# Altium integrated library TI Amplifiers and Linear Operational Amplifier Precision Amplifier Part One.IntLib: 2299 symbols (part 83 of 85)
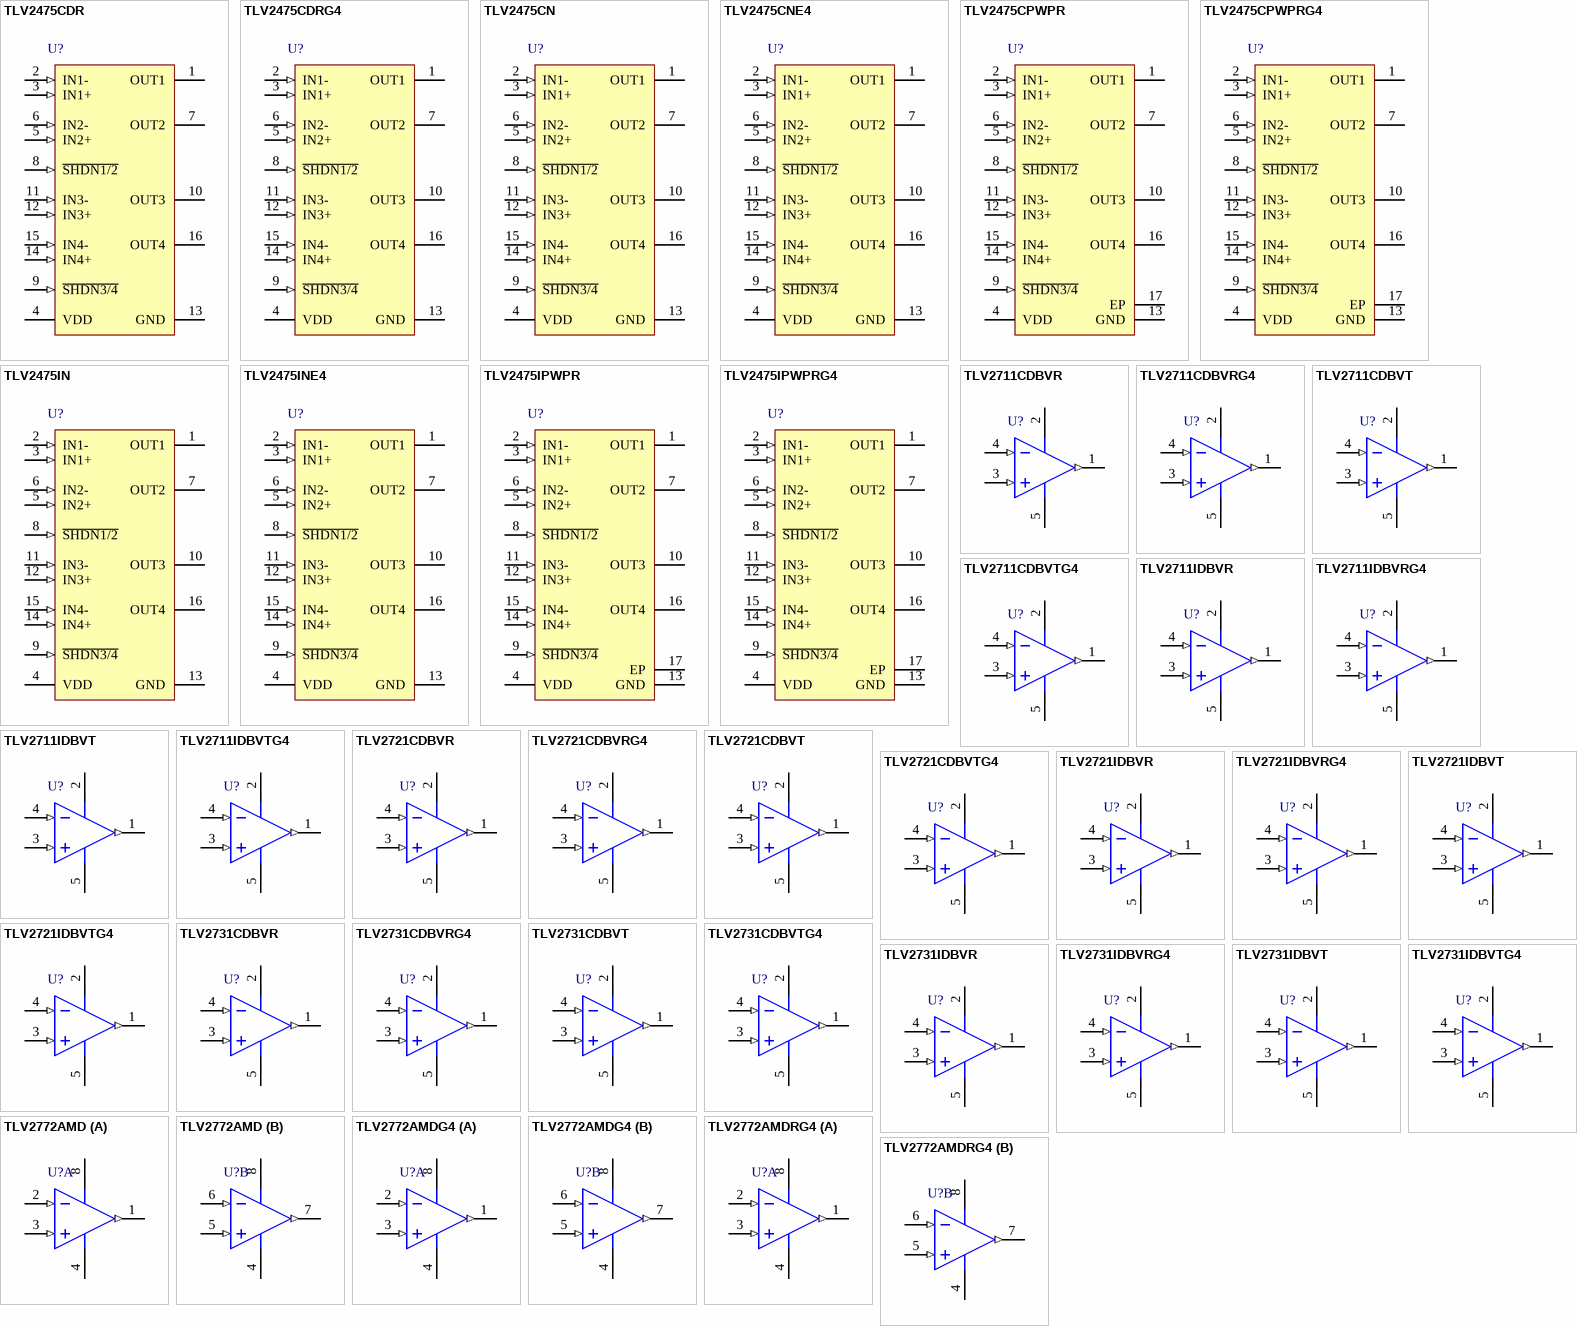
[diagram p206: symbols TLV2475CDR to TLV2772AMDRG4]

## TLV2721IDBVR
designator U?
Single LinCMOS(TM) Rail-to-Rail Very Low-Power Operational Amplifier, 2.7 to 10 V, -40 to 85 degC, 5-pin SOT23 (DBV5), Green (RoHS & no Sb/Br); Manufacturer: Texas Instruments; PartNumber: TLV2721IDBVR; CMRR(Min)(dB): 70; IIB(Max)(pA): 60; Iq per channel(Max)(mA): 0.15; Number of Channels: 1; Slew Rate(Typ)(V/us): 0.25; Sub Family: Low Power Amp (<=500uA), Low Supply Voltage Amplifier (<=2.7V), Precision Amplifier; Total Supply Voltage(Max)(+5V is 5, +/-5V is 10): 10; Total Supply Voltage(Min)(+5V is 5, +/-5V is 10): 2.7; Vio (25C)(Max)(mV): 3; Vn at 1kHz(Typ)(nV/rtHz): 20; DatasheetVersion: SLOS197A; PackageVersion: 4073253-4/K, 03/2006; PackageReference: DBV5; PackageDescription: 5-Pin Plastic Small Outline, Body 1.6 x 2.9 mm, Pitch 0.95 mm; Supplier 1: Digi-Key; Supplier Part Number 1: 296-10654-2-ND; Supplier 2: Digi-Key; Supplier Part Number 2: 296-10654-1-ND; Supplier 3: Digi-Key; Supplier Part Number 3: 296-10654-6-ND; Supplier 4: Newark; Supplier Part Number 4: 76C8489; Supplier 5: Mouser; Supplier Part Number 5: 595-TLV2721IDBVR; Eco-Plan: Green (RoHS & no Sb/Br); Offset Drift(Typ)(uV/C): 1; Mounting Technology: Surface Mount; Code_JEDEC: MO-178; ComponentLink1Description: Manufacturer URL; ComponentLink1URL: http://www.ti.com/; ComponentLink2Description: Datasheet; ComponentLink2URL: http://www.ti.com/general/docs/lit/getliterature.tsp?genericPartNumber=TLV2721&fileType=pdf; ComponentLink3Description: Package Specification; ComponentLink3URL: http://www.ti.com/litv/pdf/mpds018i
footprint TI-DBV5_N (SOT23, 5-Leads, Body 2.9x1.6mm, Pitch 0.95mm, IPC Medium Density)
footprint TI-DBV5_L (SOT23, 5-Leads, Body 2.9x1.6mm, Pitch 0.95mm, IPC High Density)
footprint TI-DBV5_M (SOT23, 5-Leads, Body 2.9x1.6mm, Pitch 0.95mm, IPC Low Density)
pins: 1 OUT (out), 2 VDD+ (power), 3 IN+ (in), 4 IN- (in), 5 VDD-/GND (power)

## TLV2721IDBVRG4
designator U?
Single LinCMOS(TM) Rail-to-Rail Very Low-Power Operational Amplifier, 2.7 to 10 V, -40 to 85 degC, 5-pin SOT23 (DBV5), Green (RoHS & no Sb/Br); Manufacturer: Texas Instruments; PartNumber: TLV2721IDBVRG4; CMRR(Min)(dB): 70; IIB(Max)(pA): 60; Iq per channel(Max)(mA): 0.15; Number of Channels: 1; Slew Rate(Typ)(V/us): 0.25; Sub Family: Low Power Amp (<=500uA), Low Supply Voltage Amplifier (<=2.7V), Precision Amplifier; Total Supply Voltage(Max)(+5V is 5, +/-5V is 10): 10; Total Supply Voltage(Min)(+5V is 5, +/-5V is 10): 2.7; Vio (25C)(Max)(mV): 3; Vn at 1kHz(Typ)(nV/rtHz): 20; DatasheetVersion: SLOS197A; PackageVersion: 4073253-4/K, 03/2006; PackageReference: DBV5; PackageDescription: 5-Pin Plastic Small Outline, Body 1.6 x 2.9 mm, Pitch 0.95 mm; Supplier 1: Digi-Key; Supplier Part Number 1: TLV2721IDBVRG4-ND; Supplier 2: Mouser; Supplier Part Number 2: 595-TLV2721IDBVRG4; Eco-Plan: Green (RoHS & no Sb/Br); Offset Drift(Typ)(uV/C): 1; Mounting Technology: Surface Mount; Code_JEDEC: MO-178; ComponentLink1Description: Manufacturer URL; ComponentLink1URL: http://www.ti.com/; ComponentLink2Description: Datasheet; ComponentLink2URL: http://www.ti.com/general/docs/lit/getliterature.tsp?genericPartNumber=TLV2721&fileType=pdf; ComponentLink3Description: Package Specification; ComponentLink3URL: http://www.ti.com/litv/pdf/mpds018i
footprint TI-DBV5_N (SOT23, 5-Leads, Body 2.9x1.6mm, Pitch 0.95mm, IPC Medium Density)
footprint TI-DBV5_L (SOT23, 5-Leads, Body 2.9x1.6mm, Pitch 0.95mm, IPC High Density)
footprint TI-DBV5_M (SOT23, 5-Leads, Body 2.9x1.6mm, Pitch 0.95mm, IPC Low Density)
pins: 1 OUT (out), 2 VDD+ (power), 3 IN+ (in), 4 IN- (in), 5 VDD-/GND (power)

## TLV2721IDBVT
designator U?
Single LinCMOS(TM) Rail-to-Rail Very Low-Power Operational Amplifier, 2.7 to 10 V, -40 to 85 degC, 5-pin SOT23 (DBV5), Green (RoHS & no Sb/Br); Manufacturer: Texas Instruments; PartNumber: TLV2721IDBVT; CMRR(Min)(dB): 70; IIB(Max)(pA): 60; Iq per channel(Max)(mA): 0.15; Number of Channels: 1; Slew Rate(Typ)(V/us): 0.25; Sub Family: Low Power Amp (<=500uA), Low Supply Voltage Amplifier (<=2.7V), Precision Amplifier; Total Supply Voltage(Max)(+5V is 5, +/-5V is 10): 10; Total Supply Voltage(Min)(+5V is 5, +/-5V is 10): 2.7; Vio (25C)(Max)(mV): 3; Vn at 1kHz(Typ)(nV/rtHz): 20; DatasheetVersion: SLOS197A; PackageVersion: 4073253-4/K, 03/2006; PackageReference: DBV5; PackageDescription: 5-Pin Plastic Small Outline, Body 1.6 x 2.9 mm, Pitch 0.95 mm; Supplier 1: Digi-Key; Supplier Part Number 1: TLV2721IDBVT-ND; Supplier 2: Newark; Supplier Part Number 2: 76C8490; Supplier 3: Mouser; Supplier Part Number 3: 595-TLV2721IDBVT; Eco-Plan: Green (RoHS & no Sb/Br); Offset Drift(Typ)(uV/C): 1; Mounting Technology: Surface Mount; Code_JEDEC: MO-178; ComponentLink1Description: Manufacturer URL; ComponentLink1URL: http://www.ti.com/; ComponentLink2Description: Datasheet; ComponentLink2URL: http://www.ti.com/general/docs/lit/getliterature.tsp?genericPartNumber=TLV2721&fileType=pdf; ComponentLink3Description: Package Specification; ComponentLink3URL: http://www.ti.com/litv/pdf/mpds018i
footprint TI-DBV5_N (SOT23, 5-Leads, Body 2.9x1.6mm, Pitch 0.95mm, IPC Medium Density)
footprint TI-DBV5_L (SOT23, 5-Leads, Body 2.9x1.6mm, Pitch 0.95mm, IPC High Density)
footprint TI-DBV5_M (SOT23, 5-Leads, Body 2.9x1.6mm, Pitch 0.95mm, IPC Low Density)
pins: 1 OUT (out), 2 VDD+ (power), 3 IN+ (in), 4 IN- (in), 5 VDD-/GND (power)

## TLV2721IDBVTG4
designator U?
Single LinCMOS(TM) Rail-to-Rail Very Low-Power Operational Amplifier, 2.7 to 10 V, -40 to 85 degC, 5-pin SOT23 (DBV5), Green (RoHS & no Sb/Br); Manufacturer: Texas Instruments; PartNumber: TLV2721IDBVTG4; CMRR(Min)(dB): 70; IIB(Max)(pA): 60; Iq per channel(Max)(mA): 0.15; Number of Channels: 1; Slew Rate(Typ)(V/us): 0.25; Sub Family: Low Power Amp (<=500uA), Low Supply Voltage Amplifier (<=2.7V), Precision Amplifier; Total Supply Voltage(Max)(+5V is 5, +/-5V is 10): 10; Total Supply Voltage(Min)(+5V is 5, +/-5V is 10): 2.7; Vio (25C)(Max)(mV): 3; Vn at 1kHz(Typ)(nV/rtHz): 20; DatasheetVersion: SLOS197A; PackageVersion: 4073253-4/K, 03/2006; PackageReference: DBV5; PackageDescription: 5-Pin Plastic Small Outline, Body 1.6 x 2.9 mm, Pitch 0.95 mm; Supplier 1: Digi-Key; Supplier Part Number 1: TLV2721IDBVTG4-ND; Supplier 2: Mouser; Supplier Part Number 2: 595-TLV2721IDBVTG4; Eco-Plan: Green (RoHS & no Sb/Br); Offset Drift(Typ)(uV/C): 1; Mounting Technology: Surface Mount; Code_JEDEC: MO-178; ComponentLink1Description: Manufacturer URL; ComponentLink1URL: http://www.ti.com/; ComponentLink2Description: Datasheet; ComponentLink2URL: http://www.ti.com/general/docs/lit/getliterature.tsp?genericPartNumber=TLV2721&fileType=pdf; ComponentLink3Description: Package Specification; ComponentLink3URL: http://www.ti.com/litv/pdf/mpds018i
footprint TI-DBV5_N (SOT23, 5-Leads, Body 2.9x1.6mm, Pitch 0.95mm, IPC Medium Density)
footprint TI-DBV5_L (SOT23, 5-Leads, Body 2.9x1.6mm, Pitch 0.95mm, IPC High Density)
footprint TI-DBV5_M (SOT23, 5-Leads, Body 2.9x1.6mm, Pitch 0.95mm, IPC Low Density)
pins: 1 OUT (out), 2 VDD+ (power), 3 IN+ (in), 4 IN- (in), 5 VDD-/GND (power)

## TLV2731CDBVR
designator U?
Single LinCMOS(TM) Rail-to-Rail Low-Power Operational Amplifier, 2.7 to 10 V, 0 to 70 degC, 5-pin SOT23 (DBV5), Green (RoHS & no Sb/Br); Manufacturer: Texas Instruments; PartNumber: TLV2731CDBVR; CMRR(Min)(dB): 60; Iq per channel(Max)(mA): 1.2; Number of Channels: 1; Offset Drift(Typ)(uV/C): 0.5; Slew Rate(Typ)(V/us): 1.25; Sub Family: Low Supply Voltage Amplifier (<=2.7V), Precision Amplifier; Total Supply Voltage(Max)(+5V is 5, +/-5V is 10): 10; Total Supply Voltage(Min)(+5V is 5, +/-5V is 10): 2.7; Vio (25C)(Max)(mV): 3; Vn at 1kHz(Typ)(nV/rtHz): 16; DatasheetVersion: SLOS198A; PackageVersion: 4073253-4/K, 03/2006; PackageReference: DBV5; PackageDescription: 5-Pin Plastic Small Outline, Body 1.6 x 2.9 mm, Pitch 0.95 mm; Supplier 1: Digi-Key; Supplier Part Number 1: 296-10656-2-ND; Supplier 2: Digi-Key; Supplier Part Number 2: 296-10656-1-ND; Supplier 3: Digi-Key; Supplier Part Number 3: 296-10656-6-ND; Supplier 4: Newark; Supplier Part Number 4: 76C8491; Supplier 5: Mouser; Supplier Part Number 5: 595-TLV2731CDBVR; Eco-Plan: Green (RoHS & no Sb/Br); IIB(Max)(pA): 60; Mounting Technology: Surface Mount; Code_JEDEC: MO-178; ComponentLink1Description: Manufacturer URL; ComponentLink1URL: http://www.ti.com/; ComponentLink2Description: Datasheet; ComponentLink2URL: http://www.ti.com/general/docs/lit/getliterature.tsp?genericPartNumber=TLV2731&fileType=pdf; ComponentLink3Description: Package Specification; ComponentLink3URL: http://www.ti.com/litv/pdf/mpds018i
footprint TI-DBV5_N (SOT23, 5-Leads, Body 2.9x1.6mm, Pitch 0.95mm, IPC Medium Density)
footprint TI-DBV5_L (SOT23, 5-Leads, Body 2.9x1.6mm, Pitch 0.95mm, IPC High Density)
footprint TI-DBV5_M (SOT23, 5-Leads, Body 2.9x1.6mm, Pitch 0.95mm, IPC Low Density)
pins: 1 OUT (out), 2 VDD+ (power), 3 IN+ (in), 4 IN- (in), 5 VDD-/GND (power)

## TLV2731CDBVRG4
designator U?
Single LinCMOS(TM) Rail-to-Rail Low-Power Operational Amplifier, 2.7 to 10 V, 0 to 70 degC, 5-pin SOT23 (DBV5), Green (RoHS & no Sb/Br); Manufacturer: Texas Instruments; PartNumber: TLV2731CDBVRG4; CMRR(Min)(dB): 60; Iq per channel(Max)(mA): 1.2; Number of Channels: 1; Offset Drift(Typ)(uV/C): 0.5; Slew Rate(Typ)(V/us): 1.25; Sub Family: Low Supply Voltage Amplifier (<=2.7V), Precision Amplifier; Total Supply Voltage(Max)(+5V is 5, +/-5V is 10): 10; Total Supply Voltage(Min)(+5V is 5, +/-5V is 10): 2.7; Vio (25C)(Max)(mV): 3; Vn at 1kHz(Typ)(nV/rtHz): 16; DatasheetVersion: SLOS198A; PackageVersion: 4073253-4/K, 03/2006; PackageReference: DBV5; PackageDescription: 5-Pin Plastic Small Outline, Body 1.6 x 2.9 mm, Pitch 0.95 mm; Supplier 1: Digi-Key; Supplier Part Number 1: TLV2731CDBVRG4-ND; Supplier 2: Newark; Supplier Part Number 2: 71J8006; Supplier 3: Mouser; Supplier Part Number 3: 595-TLV2731CDBVRG4; Eco-Plan: Green (RoHS & no Sb/Br); IIB(Max)(pA): 60; Mounting Technology: Surface Mount; Code_JEDEC: MO-178; ComponentLink1Description: Manufacturer URL; ComponentLink1URL: http://www.ti.com/; ComponentLink2Description: Datasheet; ComponentLink2URL: http://www.ti.com/general/docs/lit/getliterature.tsp?genericPartNumber=TLV2731&fileType=pdf; ComponentLink3Description: Package Specification; ComponentLink3URL: http://www.ti.com/litv/pdf/mpds018i
footprint TI-DBV5_N (SOT23, 5-Leads, Body 2.9x1.6mm, Pitch 0.95mm, IPC Medium Density)
footprint TI-DBV5_L (SOT23, 5-Leads, Body 2.9x1.6mm, Pitch 0.95mm, IPC High Density)
footprint TI-DBV5_M (SOT23, 5-Leads, Body 2.9x1.6mm, Pitch 0.95mm, IPC Low Density)
pins: 1 OUT (out), 2 VDD+ (power), 3 IN+ (in), 4 IN- (in), 5 VDD-/GND (power)

## TLV2731CDBVT
designator U?
Single LinCMOS(TM) Rail-to-Rail Low-Power Operational Amplifier, 2.7 to 10 V, 0 to 70 degC, 5-pin SOT23 (DBV5), Green (RoHS & no Sb/Br); Manufacturer: Texas Instruments; PartNumber: TLV2731CDBVT; CMRR(Min)(dB): 60; Iq per channel(Max)(mA): 1.2; Number of Channels: 1; Offset Drift(Typ)(uV/C): 0.5; Slew Rate(Typ)(V/us): 1.25; Sub Family: Low Supply Voltage Amplifier (<=2.7V), Precision Amplifier; Total Supply Voltage(Max)(+5V is 5, +/-5V is 10): 10; Total Supply Voltage(Min)(+5V is 5, +/-5V is 10): 2.7; Vio (25C)(Max)(mV): 3; Vn at 1kHz(Typ)(nV/rtHz): 16; DatasheetVersion: SLOS198A; PackageVersion: 4073253-4/K, 03/2006; PackageReference: DBV5; PackageDescription: 5-Pin Plastic Small Outline, Body 1.6 x 2.9 mm, Pitch 0.95 mm; Supplier 1: Digi-Key; Supplier Part Number 1: 296-32381-2-ND; Supplier 2: Digi-Key; Supplier Part Number 2: 296-32381-1-ND; Supplier 3: Digi-Key; Supplier Part Number 3: 296-32381-6-ND; Supplier 4: Farnell; Supplier Part Number 4: 8455295; Supplier 5: Mouser; Supplier Part Number 5: 595-TLV2731CDBVT; Eco-Plan: Green (RoHS & no Sb/Br); IIB(Max)(pA): 60; Mounting Technology: Surface Mount; Code_JEDEC: MO-178; ComponentLink1Description: Manufacturer URL; ComponentLink1URL: http://www.ti.com/; ComponentLink2Description: Datasheet; ComponentLink2URL: http://www.ti.com/general/docs/lit/getliterature.tsp?genericPartNumber=TLV2731&fileType=pdf; ComponentLink3Description: Package Specification; ComponentLink3URL: http://www.ti.com/litv/pdf/mpds018i
footprint TI-DBV5_N (SOT23, 5-Leads, Body 2.9x1.6mm, Pitch 0.95mm, IPC Medium Density)
footprint TI-DBV5_L (SOT23, 5-Leads, Body 2.9x1.6mm, Pitch 0.95mm, IPC High Density)
footprint TI-DBV5_M (SOT23, 5-Leads, Body 2.9x1.6mm, Pitch 0.95mm, IPC Low Density)
pins: 1 OUT (out), 2 VDD+ (power), 3 IN+ (in), 4 IN- (in), 5 VDD-/GND (power)

## TLV2731CDBVTG4
designator U?
Single LinCMOS(TM) Rail-to-Rail Low-Power Operational Amplifier, 2.7 to 10 V, 0 to 70 degC, 5-pin SOT23 (DBV5), Green (RoHS & no Sb/Br); Manufacturer: Texas Instruments; PartNumber: TLV2731CDBVTG4; CMRR(Min)(dB): 60; Iq per channel(Max)(mA): 1.2; Number of Channels: 1; Offset Drift(Typ)(uV/C): 0.5; Slew Rate(Typ)(V/us): 1.25; Sub Family: Low Supply Voltage Amplifier (<=2.7V), Precision Amplifier; Total Supply Voltage(Max)(+5V is 5, +/-5V is 10): 10; Total Supply Voltage(Min)(+5V is 5, +/-5V is 10): 2.7; Vio (25C)(Max)(mV): 3; Vn at 1kHz(Typ)(nV/rtHz): 16; DatasheetVersion: SLOS198A; PackageVersion: 4073253-4/K, 03/2006; PackageReference: DBV5; PackageDescription: 5-Pin Plastic Small Outline, Body 1.6 x 2.9 mm, Pitch 0.95 mm; Supplier 1: Digi-Key; Supplier Part Number 1: TLV2731CDBVTG4-ND; Supplier 2: Mouser; Supplier Part Number 2: 595-TLV2731CDBVTG4; Eco-Plan: Green (RoHS & no Sb/Br); IIB(Max)(pA): 60; Mounting Technology: Surface Mount; Code_JEDEC: MO-178; ComponentLink1Description: Manufacturer URL; ComponentLink1URL: http://www.ti.com/; ComponentLink2Description: Datasheet; ComponentLink2URL: http://www.ti.com/general/docs/lit/getliterature.tsp?genericPartNumber=TLV2731&fileType=pdf; ComponentLink3Description: Package Specification; ComponentLink3URL: http://www.ti.com/litv/pdf/mpds018i
footprint TI-DBV5_N (SOT23, 5-Leads, Body 2.9x1.6mm, Pitch 0.95mm, IPC Medium Density)
footprint TI-DBV5_L (SOT23, 5-Leads, Body 2.9x1.6mm, Pitch 0.95mm, IPC High Density)
footprint TI-DBV5_M (SOT23, 5-Leads, Body 2.9x1.6mm, Pitch 0.95mm, IPC Low Density)
pins: 1 OUT (out), 2 VDD+ (power), 3 IN+ (in), 4 IN- (in), 5 VDD-/GND (power)

## TLV2731IDBVR
designator U?
Single LinCMOS(TM) Rail-to-Rail Low-Power Operational Amplifier, 2.7 to 10 V, -40 to 85 degC, 5-pin SOT23 (DBV5), Green (RoHS & no Sb/Br); Manufacturer: Texas Instruments; PartNumber: TLV2731IDBVR; CMRR(Min)(dB): 60; Iq per channel(Max)(mA): 1.2; Number of Channels: 1; Offset Drift(Typ)(uV/C): 0.5; Slew Rate(Typ)(V/us): 1.25; Sub Family: Low Supply Voltage Amplifier (<=2.7V), Precision Amplifier; Total Supply Voltage(Max)(+5V is 5, +/-5V is 10): 10; Total Supply Voltage(Min)(+5V is 5, +/-5V is 10): 2.7; Vio (25C)(Max)(mV): 3; Vn at 1kHz(Typ)(nV/rtHz): 16; DatasheetVersion: SLOS198A; PackageVersion: 4073253-4/K, 03/2006; PackageReference: DBV5; PackageDescription: 5-Pin Plastic Small Outline, Body 1.6 x 2.9 mm, Pitch 0.95 mm; Supplier 1: Digi-Key; Supplier Part Number 1: 296-10657-2-ND; Supplier 2: Digi-Key; Supplier Part Number 2: 296-10657-1-ND; Supplier 3: Digi-Key; Supplier Part Number 3: 296-10657-6-ND; Supplier 4: Newark; Supplier Part Number 4: 76C8493; Supplier 5: Mouser; Supplier Part Number 5: 595-TLV2731IDBVR; Eco-Plan: Green (RoHS & no Sb/Br); IIB(Max)(pA): 60; Mounting Technology: Surface Mount; Code_JEDEC: MO-178; ComponentLink1Description: Manufacturer URL; ComponentLink1URL: http://www.ti.com/; ComponentLink2Description: Datasheet; ComponentLink2URL: http://www.ti.com/general/docs/lit/getliterature.tsp?genericPartNumber=TLV2731&fileType=pdf; ComponentLink3Description: Package Specification; ComponentLink3URL: http://www.ti.com/litv/pdf/mpds018i
footprint TI-DBV5_N (SOT23, 5-Leads, Body 2.9x1.6mm, Pitch 0.95mm, IPC Medium Density)
footprint TI-DBV5_L (SOT23, 5-Leads, Body 2.9x1.6mm, Pitch 0.95mm, IPC High Density)
footprint TI-DBV5_M (SOT23, 5-Leads, Body 2.9x1.6mm, Pitch 0.95mm, IPC Low Density)
pins: 1 OUT (out), 2 VDD+ (power), 3 IN+ (in), 4 IN- (in), 5 VDD-/GND (power)

## TLV2731IDBVRG4
designator U?
Single LinCMOS(TM) Rail-to-Rail Low-Power Operational Amplifier, 2.7 to 10 V, -40 to 85 degC, 5-pin SOT23 (DBV5), Green (RoHS & no Sb/Br); Manufacturer: Texas Instruments; PartNumber: TLV2731IDBVRG4; CMRR(Min)(dB): 60; Iq per channel(Max)(mA): 1.2; Number of Channels: 1; Offset Drift(Typ)(uV/C): 0.5; Slew Rate(Typ)(V/us): 1.25; Sub Family: Low Supply Voltage Amplifier (<=2.7V), Precision Amplifier; Total Supply Voltage(Max)(+5V is 5, +/-5V is 10): 10; Total Supply Voltage(Min)(+5V is 5, +/-5V is 10): 2.7; Vio (25C)(Max)(mV): 3; Vn at 1kHz(Typ)(nV/rtHz): 16; DatasheetVersion: SLOS198A; PackageVersion: 4073253-4/K, 03/2006; PackageReference: DBV5; PackageDescription: 5-Pin Plastic Small Outline, Body 1.6 x 2.9 mm, Pitch 0.95 mm; Supplier 1: Digi-Key; Supplier Part Number 1: TLV2731IDBVRG4-ND; Supplier 2: Mouser; Supplier Part Number 2: 595-TLV2731IDBVRG4; Eco-Plan: Green (RoHS & no Sb/Br); IIB(Max)(pA): 60; Mounting Technology: Surface Mount; Code_JEDEC: MO-178; ComponentLink1Description: Manufacturer URL; ComponentLink1URL: http://www.ti.com/; ComponentLink2Description: Datasheet; ComponentLink2URL: http://www.ti.com/general/docs/lit/getliterature.tsp?genericPartNumber=TLV2731&fileType=pdf; ComponentLink3Description: Package Specification; ComponentLink3URL: http://www.ti.com/litv/pdf/mpds018i
footprint TI-DBV5_N (SOT23, 5-Leads, Body 2.9x1.6mm, Pitch 0.95mm, IPC Medium Density)
footprint TI-DBV5_L (SOT23, 5-Leads, Body 2.9x1.6mm, Pitch 0.95mm, IPC High Density)
footprint TI-DBV5_M (SOT23, 5-Leads, Body 2.9x1.6mm, Pitch 0.95mm, IPC Low Density)
pins: 1 OUT (out), 2 VDD+ (power), 3 IN+ (in), 4 IN- (in), 5 VDD-/GND (power)

## TLV2731IDBVT
designator U?
Single LinCMOS(TM) Rail-to-Rail Low-Power Operational Amplifier, 2.7 to 10 V, -40 to 85 degC, 5-pin SOT23 (DBV5), Green (RoHS & no Sb/Br); Manufacturer: Texas Instruments; PartNumber: TLV2731IDBVT; CMRR(Min)(dB): 60; Iq per channel(Max)(mA): 1.2; Number of Channels: 1; Offset Drift(Typ)(uV/C): 0.5; Slew Rate(Typ)(V/us): 1.25; Sub Family: Low Supply Voltage Amplifier (<=2.7V), Precision Amplifier; Total Supply Voltage(Max)(+5V is 5, +/-5V is 10): 10; Total Supply Voltage(Min)(+5V is 5, +/-5V is 10): 2.7; Vio (25C)(Max)(mV): 3; Vn at 1kHz(Typ)(nV/rtHz): 16; DatasheetVersion: SLOS198A; PackageVersion: 4073253-4/K, 03/2006; PackageReference: DBV5; PackageDescription: 5-Pin Plastic Small Outline, Body 1.6 x 2.9 mm, Pitch 0.95 mm; Supplier 1: Digi-Key; Supplier Part Number 1: 296-32382-2-ND; Supplier 2: Digi-Key; Supplier Part Number 2: 296-32382-1-ND; Supplier 3: Digi-Key; Supplier Part Number 3: 296-32382-6-ND; Supplier 4: Farnell; Supplier Part Number 4: 8455309; Supplier 5: Newark; Supplier Part Number 5: 38K8451; Supplier 6: Mouser; Supplier Part Number 6: 595-TLV2731IDBVT; Eco-Plan: Green (RoHS & no Sb/Br); IIB(Max)(pA): 60; Mounting Technology: Surface Mount; Code_JEDEC: MO-178; ComponentLink1Description: Manufacturer URL; ComponentLink1URL: http://www.ti.com/; ComponentLink2Description: Datasheet; ComponentLink2URL: http://www.ti.com/general/docs/lit/getliterature.tsp?genericPartNumber=TLV2731&fileType=pdf; ComponentLink3Description: Package Specification; ComponentLink3URL: http://www.ti.com/litv/pdf/mpds018i
footprint TI-DBV5_N (SOT23, 5-Leads, Body 2.9x1.6mm, Pitch 0.95mm, IPC Medium Density)
footprint TI-DBV5_L (SOT23, 5-Leads, Body 2.9x1.6mm, Pitch 0.95mm, IPC High Density)
footprint TI-DBV5_M (SOT23, 5-Leads, Body 2.9x1.6mm, Pitch 0.95mm, IPC Low Density)
pins: 1 OUT (out), 2 VDD+ (power), 3 IN+ (in), 4 IN- (in), 5 VDD-/GND (power)

## TLV2731IDBVTG4
designator U?
Single LinCMOS(TM) Rail-to-Rail Low-Power Operational Amplifier, 2.7 to 10 V, -40 to 85 degC, 5-pin SOT23 (DBV5), Green (RoHS & no Sb/Br); Manufacturer: Texas Instruments; PartNumber: TLV2731IDBVTG4; CMRR(Min)(dB): 60; Iq per channel(Max)(mA): 1.2; Number of Channels: 1; Offset Drift(Typ)(uV/C): 0.5; Slew Rate(Typ)(V/us): 1.25; Sub Family: Low Supply Voltage Amplifier (<=2.7V), Precision Amplifier; Total Supply Voltage(Max)(+5V is 5, +/-5V is 10): 10; Total Supply Voltage(Min)(+5V is 5, +/-5V is 10): 2.7; Vio (25C)(Max)(mV): 3; Vn at 1kHz(Typ)(nV/rtHz): 16; DatasheetVersion: SLOS198A; PackageVersion: 4073253-4/K, 03/2006; PackageReference: DBV5; PackageDescription: 5-Pin Plastic Small Outline, Body 1.6 x 2.9 mm, Pitch 0.95 mm; Supplier 1: Digi-Key; Supplier Part Number 1: TLV2731IDBVTG4-ND; Supplier 2: Mouser; Supplier Part Number 2: 595-TLV2731IDBVTG4; Eco-Plan: Green (RoHS & no Sb/Br); IIB(Max)(pA): 60; Mounting Technology: Surface Mount; Code_JEDEC: MO-178; ComponentLink1Description: Manufacturer URL; ComponentLink1URL: http://www.ti.com/; ComponentLink2Description: Datasheet; ComponentLink2URL: http://www.ti.com/general/docs/lit/getliterature.tsp?genericPartNumber=TLV2731&fileType=pdf; ComponentLink3Description: Package Specification; ComponentLink3URL: http://www.ti.com/litv/pdf/mpds018i
footprint TI-DBV5_N (SOT23, 5-Leads, Body 2.9x1.6mm, Pitch 0.95mm, IPC Medium Density)
footprint TI-DBV5_L (SOT23, 5-Leads, Body 2.9x1.6mm, Pitch 0.95mm, IPC High Density)
footprint TI-DBV5_M (SOT23, 5-Leads, Body 2.9x1.6mm, Pitch 0.95mm, IPC Low Density)
pins: 1 OUT (out), 2 VDD+ (power), 3 IN+ (in), 4 IN- (in), 5 VDD-/GND (power)

## TLV2772AMD
designator U?
Dual High-Slew-Rate Rail-to-Rail Output Operational Amplifier, 2.5 to 6 V, -55 to 125 degC, 8-pin SOIC (D8), Green (RoHS & no Sb/Br); Manufacturer: Texas Instruments; PartNumber: TLV2772AMD; CMRR(Min)(dB): 60; Iq per channel(Max)(mA): 2; Slew Rate(Typ)(V/us): 9; Sub Family: Low Supply Voltage Amplifier (<=2.7V), Precision Amplifier; Total Supply Voltage(Max)(+5V is 5, +/-5V is 10): 6; Total Supply Voltage(Min)(+5V is 5, +/-5V is 10): 2.5; Vio (25C)(Max)(mV): 1.6; Vn at 1kHz(Typ)(nV/rtHz): 21; DatasheetVersion: SLOS209G; PackageVersion: 4040047-3/M, 06/2011; PackageReference: D8; PackageDescription: 8-Pin Plastic Small Outline, Body 4.9 x 3.9 mm, Pitch 1.27 mm; Supplier 1: Digi-Key; Supplier Part Number 1: 296-7589-5-ND; Supplier 2: Newark; Supplier Part Number 2: 76C8561; Supplier 3: Mouser; Supplier Part Number 3: 595-TLV2772AMD; Eco-Plan: Green (RoHS & no Sb/Br); IIB(Max)(pA): 60; Number of Channels: 2; Offset Drift(Typ)(uV/C): 2; Mounting Technology: Surface Mount; Code_JEDEC: MS-012; ComponentLink1Description: Manufacturer URL; ComponentLink1URL: http://www.ti.com/; ComponentLink2Description: Datasheet; ComponentLink2URL: http://www.ti.com/general/docs/lit/getliterature.tsp?genericPartNumber=TLV2772AM&fileType=pdf; ComponentLink3Description: Package Specification; ComponentLink3URL: http://www.ti.com/litv/pdf/msoi002j
footprint TI-D8_N (SOIC, 8-Leads, Body 4.9x3.9mm, Pitch 1.27mm, IPC Medium Density)
footprint TI-D8_L (SOIC, 8-Leads, Body 4.9x3.9mm, Pitch 1.27mm, IPC High Density)
footprint TI-D8_M (SOIC, 8-Leads, Body 4.9x3.9mm, Pitch 1.27mm, IPC Low Density)
pins on every part: 4 GND (power), 8 VDD (power)
part A pins: 1 OUT1 (out), 2 IN1- (in), 3 IN1+ (in)
part B pins: 5 IN2+ (in), 6 IN2- (in), 7 OUT2 (out)

## TLV2772AMDG4
designator U?
Dual High-Slew-Rate Rail-to-Rail Output Operational Amplifier, 2.5 to 6 V, -55 to 125 degC, 8-pin SOIC (D8), Green (RoHS & no Sb/Br); Manufacturer: Texas Instruments; PartNumber: TLV2772AMDG4; CMRR(Min)(dB): 60; Iq per channel(Max)(mA): 2; Slew Rate(Typ)(V/us): 9; Sub Family: Low Supply Voltage Amplifier (<=2.7V), Precision Amplifier; Total Supply Voltage(Max)(+5V is 5, +/-5V is 10): 6; Total Supply Voltage(Min)(+5V is 5, +/-5V is 10): 2.5; Vio (25C)(Max)(mV): 1.6; Vn at 1kHz(Typ)(nV/rtHz): 21; DatasheetVersion: SLOS209G; PackageVersion: 4040047-3/M, 06/2011; PackageReference: D8; PackageDescription: 8-Pin Plastic Small Outline, Body 4.9 x 3.9 mm, Pitch 1.27 mm; Supplier 1: Digi-Key; Supplier Part Number 1: TLV2772AMDG4-ND; Supplier 2: Mouser; Supplier Part Number 2: 595-TLV2772AMDG4; Eco-Plan: Green (RoHS & no Sb/Br); IIB(Max)(pA): 60; Number of Channels: 2; Offset Drift(Typ)(uV/C): 2; Mounting Technology: Surface Mount; Code_JEDEC: MS-012; ComponentLink1Description: Manufacturer URL; ComponentLink1URL: http://www.ti.com/; ComponentLink2Description: Datasheet; ComponentLink2URL: http://www.ti.com/general/docs/lit/getliterature.tsp?genericPartNumber=TLV2772AM&fileType=pdf; ComponentLink3Description: Package Specification; ComponentLink3URL: http://www.ti.com/litv/pdf/msoi002j
footprint TI-D8_N (SOIC, 8-Leads, Body 4.9x3.9mm, Pitch 1.27mm, IPC Medium Density)
footprint TI-D8_L (SOIC, 8-Leads, Body 4.9x3.9mm, Pitch 1.27mm, IPC High Density)
footprint TI-D8_M (SOIC, 8-Leads, Body 4.9x3.9mm, Pitch 1.27mm, IPC Low Density)
pins on every part: 4 GND (power), 8 VDD (power)
part A pins: 1 OUT1 (out), 2 IN1- (in), 3 IN1+ (in)
part B pins: 5 IN2+ (in), 6 IN2- (in), 7 OUT2 (out)

## TLV2772AMDRG4
designator U?
Dual High-Slew-Rate Rail-to-Rail Output Operational Amplifier, 2.5 to 6 V, -55 to 125 degC, 8-pin SOIC (D8), Green (RoHS & no Sb/Br); Manufacturer: Texas Instruments; PartNumber: TLV2772AMDRG4; CMRR(Min)(dB): 60; Iq per channel(Max)(mA): 2; Slew Rate(Typ)(V/us): 9; Sub Family: Low Supply Voltage Amplifier (<=2.7V), Precision Amplifier; Total Supply Voltage(Max)(+5V is 5, +/-5V is 10): 6; Total Supply Voltage(Min)(+5V is 5, +/-5V is 10): 2.5; Vio (25C)(Max)(mV): 1.6; Vn at 1kHz(Typ)(nV/rtHz): 21; DatasheetVersion: SLOS209G; PackageVersion: 4040047-3/M, 06/2011; PackageReference: D8; PackageDescription: 8-Pin Plastic Small Outline, Body 4.9 x 3.9 mm, Pitch 1.27 mm; Supplier 1: Digi-Key; Supplier Part Number 1: TLV2772AMDRG4-ND; Supplier 2: Mouser; Supplier Part Number 2: 595-TLV2772AMDRG4; Eco-Plan: Green (RoHS & no Sb/Br); IIB(Max)(pA): 60; Number of Channels: 2; Offset Drift(Typ)(uV/C): 2; Mounting Technology: Surface Mount; Code_JEDEC: MS-012; ComponentLink1Description: Manufacturer URL; ComponentLink1URL: http://www.ti.com/; ComponentLink2Description: Datasheet; ComponentLink2URL: http://www.ti.com/general/docs/lit/getliterature.tsp?genericPartNumber=TLV2772AM&fileType=pdf; ComponentLink3Description: Package Specification; ComponentLink3URL: http://www.ti.com/litv/pdf/msoi002j
footprint TI-D8_N (SOIC, 8-Leads, Body 4.9x3.9mm, Pitch 1.27mm, IPC Medium Density)
footprint TI-D8_L (SOIC, 8-Leads, Body 4.9x3.9mm, Pitch 1.27mm, IPC High Density)
footprint TI-D8_M (SOIC, 8-Leads, Body 4.9x3.9mm, Pitch 1.27mm, IPC Low Density)
pins on every part: 4 GND (power), 8 VDD (power)
part A pins: 1 OUT1 (out), 2 IN1- (in), 3 IN1+ (in)
part B pins: 5 IN2+ (in), 6 IN2- (in), 7 OUT2 (out)

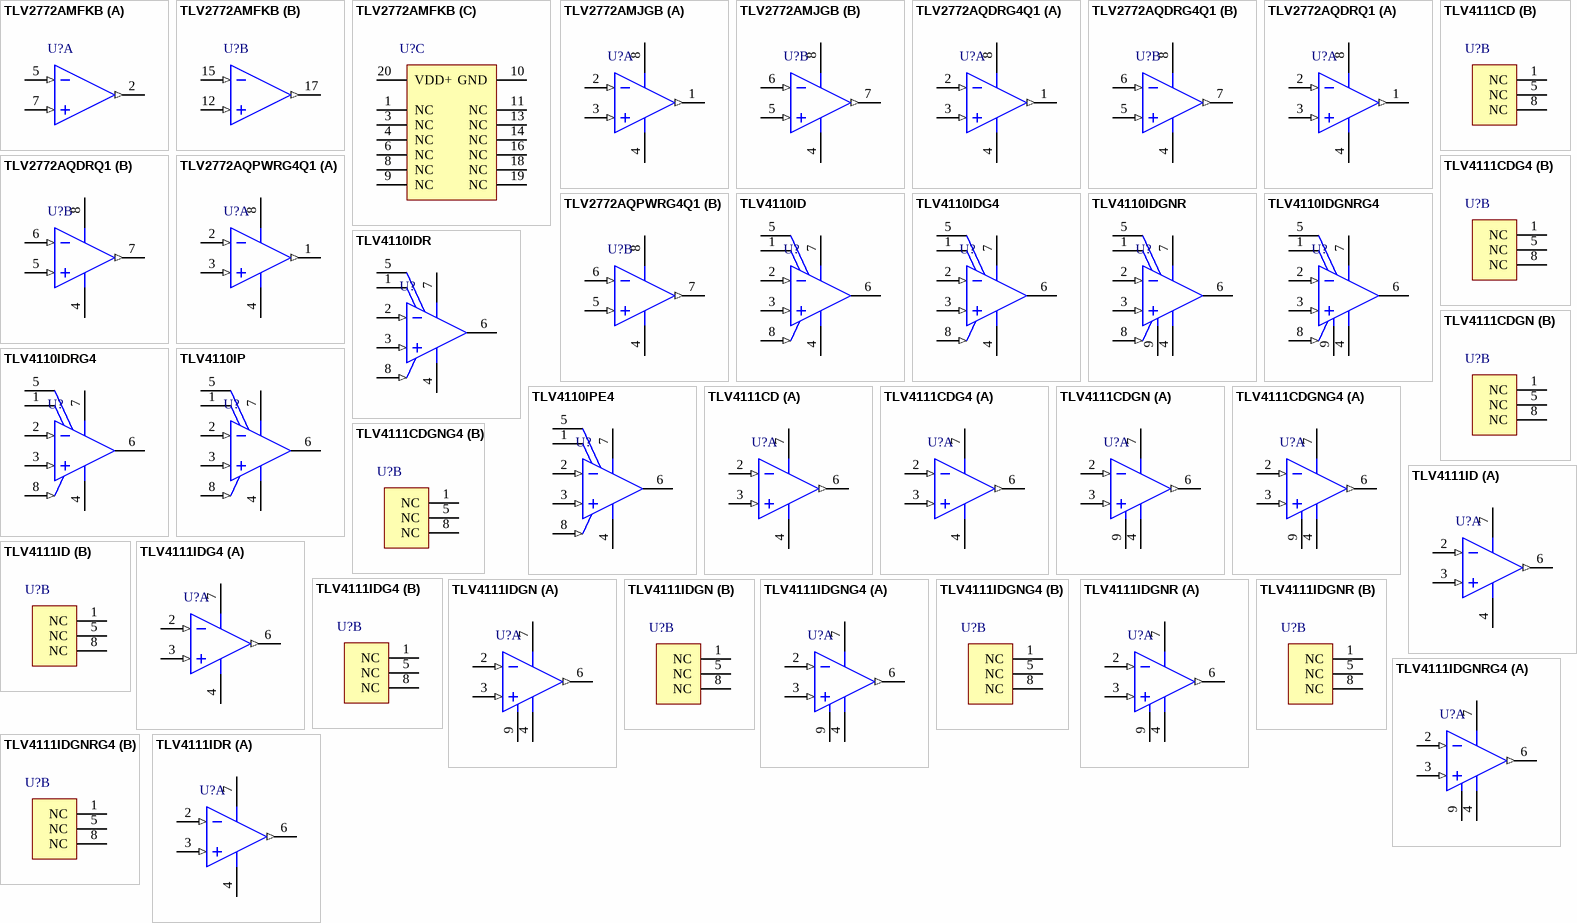
[diagram p121: symbols TLV2772AMFKB to TLV4111IDR]

## TLV2772AMFKB
designator U?
Dual High-Slew-Rate Rail-to-Rail Output Operational Amplifier, 2.5 to 6 V, -55 to 125 degC, 20-pin LCC (FK20); Manufacturer: Texas Instruments; PartNumber: TLV2772AMFKB; CMRR(Min)(dB): 60; Iq per channel(Max)(mA): 2; Slew Rate(Typ)(V/us): 9; Sub Family: Low Supply Voltage Amplifier (<=2.7V), Precision Amplifier; Total Supply Voltage(Max)(+5V is 5, +/-5V is 10): 6; Total Supply Voltage(Min)(+5V is 5, +/-5V is 10): 2.5; Vio (25C)(Max)(mV): 1.6; Vn at 1kHz(Typ)(nV/rtHz): 21; DatasheetVersion: SLOS209G; PackageVersion: 4040140/D, 01/2011; PackageReference: FK20; PackageDescription: 20-Pin Ceramic, Metal Chip Carrier, Body 8.89 x 8.89 mm, Pitch 1.27 mm; IIB(Max)(pA): 60; Number of Channels: 2; Offset Drift(Typ)(uV/C): 2; Mounting Technology: Surface Mount; Code_JEDEC: MS-004; ComponentLink1Description: Manufacturer URL; ComponentLink1URL: http://www.ti.com/; ComponentLink2Description: Datasheet; ComponentLink2URL: http://www.ti.com/general/docs/lit/getliterature.tsp?genericPartNumber=TLV2772AM&fileType=pdf; ComponentLink3Description: Package Specification; ComponentLink3URL: http://www.ti.com/litv/pdf/mlcc006d
footprint TI-FK20_N (Leadless Chip Carrier, 20-Leads, Body 8.9x8.9mm, Pitch 1.27mm, IPC Medium Density)
footprint TI-FK20_L (Leadless Chip Carrier, 20-Leads, Body 8.9x8.9mm, Pitch 1.27mm, IPC High Density)
footprint TI-FK20_M (Leadless Chip Carrier, 20-Leads, Body 8.9x8.9mm, Pitch 1.27mm, IPC Low Density)
part A pins: 2 OUT1 (out), 5 IN1- (in), 7 IN1+ (in)
part B pins: 12 IN2+ (in), 15 IN2- (in), 17 OUT2 (out)
part C pins: 1 NC, 3 NC, 4 NC, 6 NC, 8 NC, 9 NC, 10 GND (power), 11 NC, 13 NC, 14 NC, 16 NC, 18 NC, 19 NC, 20 VDD+ (power)

## TLV2772AMJGB
designator U?
Dual High-Slew-Rate Rail-to-Rail Output Operational Amplifier, 2.5 to 6 V, -55 to 125 degC, 8-pin DIP (JG8); Manufacturer: Texas Instruments; PartNumber: TLV2772AMJGB; CMRR(Min)(dB): 60; Iq per channel(Max)(mA): 2; Slew Rate(Typ)(V/us): 9; Sub Family: Low Supply Voltage Amplifier (<=2.7V), Precision Amplifier; Total Supply Voltage(Max)(+5V is 5, +/-5V is 10): 6; Total Supply Voltage(Min)(+5V is 5, +/-5V is 10): 2.5; Vio (25C)(Max)(mV): 1.6; Vn at 1kHz(Typ)(nV/rtHz): 21; DatasheetVersion: SLOS209G; PackageVersion: 4040107/C, 08/1996; PackageReference: JG8; PackageDescription: 8-Pin Ceramic, Glass In-Line, Body 9.58 x 6.665 mm, Pitch 2.54 mm; IIB(Max)(pA): 60; Number of Channels: 2; Offset Drift(Typ)(uV/C): 2; Mounting Technology: Through Hole; ComponentLink1Description: Manufacturer URL; ComponentLink1URL: http://www.ti.com/; ComponentLink2Description: Datasheet; ComponentLink2URL: http://www.ti.com/general/docs/lit/getliterature.tsp?genericPartNumber=TLV2772AM&fileType=pdf; ComponentLink3Description: Package Specification; ComponentLink3URL: http://www.ti.com/litv/pdf/mcer001a
footprint TI-JG8 (DIP, 8-Leads, Body 10.15x7.1mm, Pitch 2.54mm)
pins on every part: 4 GND (power), 8 VDD (power)
part A pins: 1 OUT1 (out), 2 IN1- (in), 3 IN1+ (in)
part B pins: 5 IN2+ (in), 6 IN2- (in), 7 OUT2 (out)

## TLV2772AQDRG4Q1
designator U?
Automotive Catalog High-Slew-Rate Rail-to-Rail Output Operational Amplifier with Shutdown, 2.5 to 6 V, -40 to 125 degC, 8-pin SOIC (D8), Green (RoHS & no Sb/Br); Manufacturer: Texas Instruments; PartNumber: TLV2772AQDRG4Q1; CMRR(Min)(dB): 60; Iq per channel(Max)(mA): 2; Slew Rate(Typ)(V/us): 9; Sub Family: Low Supply Voltage Amplifier (<=2.7V), Precision Amplifier; Total Supply Voltage(Max)(+5V is 5, +/-5V is 10): 6; Total Supply Voltage(Min)(+5V is 5, +/-5V is 10): 2.5; Vio (25C)(Max)(mV): 1.6; Vn at 1kHz(Typ)(nV/rtHz): 21; DatasheetVersion: SGLS179D; PackageVersion: 4040047-3/M, 06/2011; PackageReference: D8; PackageDescription: 8-Pin Plastic Small Outline, Body 4.9 x 3.9 mm, Pitch 1.27 mm; Supplier 1: Digi-Key; Supplier Part Number 1: TLV2772AQDRG4Q1-ND; Supplier 2: Mouser; Supplier Part Number 2: 595-TLV2772AQDRG4Q1; Eco-Plan: Green (RoHS & no Sb/Br); IIB(Max)(pA): 60; Number of Channels: 2; Offset Drift(Typ)(uV/C): 2; Mounting Technology: Surface Mount; Code_JEDEC: MS-012; ComponentLink1Description: Manufacturer URL; ComponentLink1URL: http://www.ti.com/; ComponentLink2Description: Datasheet; ComponentLink2URL: http://www.ti.com/general/docs/lit/getliterature.tsp?genericPartNumber=TLV2772A-Q1&fileType=pdf; ComponentLink3Description: Package Specification; ComponentLink3URL: http://www.ti.com/litv/pdf/msoi002j
footprint TI-D8_N (SOIC, 8-Leads, Body 4.9x3.9mm, Pitch 1.27mm, IPC Medium Density)
footprint TI-D8_L (SOIC, 8-Leads, Body 4.9x3.9mm, Pitch 1.27mm, IPC High Density)
footprint TI-D8_M (SOIC, 8-Leads, Body 4.9x3.9mm, Pitch 1.27mm, IPC Low Density)
pins on every part: 4 GND (power), 8 VDD (power)
part A pins: 1 OUT1 (out), 2 IN1- (in), 3 IN1+ (in)
part B pins: 5 IN2+ (in), 6 IN2- (in), 7 OUT2 (out)

## TLV2772AQDRQ1
designator U?
Automotive Catalog High-Slew-Rate Rail-to-Rail Output Operational Amplifier with Shutdown, 2.5 to 6 V, -40 to 125 degC, 8-pin SOIC (D8), Green (RoHS & no Sb/Br); Manufacturer: Texas Instruments; PartNumber: TLV2772AQDRQ1; CMRR(Min)(dB): 60; Iq per channel(Max)(mA): 2; Slew Rate(Typ)(V/us): 9; Sub Family: Low Supply Voltage Amplifier (<=2.7V), Precision Amplifier; Total Supply Voltage(Max)(+5V is 5, +/-5V is 10): 6; Total Supply Voltage(Min)(+5V is 5, +/-5V is 10): 2.5; Vio (25C)(Max)(mV): 1.6; Vn at 1kHz(Typ)(nV/rtHz): 21; DatasheetVersion: SGLS179D; PackageVersion: 4040047-3/M, 06/2011; PackageReference: D8; PackageDescription: 8-Pin Plastic Small Outline, Body 4.9 x 3.9 mm, Pitch 1.27 mm; Supplier 1: Digi-Key; Supplier Part Number 1: TLV2772AQDRQ1-ND; Supplier 2: Mouser; Supplier Part Number 2: 595-TLV2772AQDRQ1; Eco-Plan: Green (RoHS & no Sb/Br); IIB(Max)(pA): 60; Number of Channels: 2; Offset Drift(Typ)(uV/C): 2; Mounting Technology: Surface Mount; Code_JEDEC: MS-012; ComponentLink1Description: Manufacturer URL; ComponentLink1URL: http://www.ti.com/; ComponentLink2Description: Datasheet; ComponentLink2URL: http://www.ti.com/general/docs/lit/getliterature.tsp?genericPartNumber=TLV2772A-Q1&fileType=pdf; ComponentLink3Description: Package Specification; ComponentLink3URL: http://www.ti.com/litv/pdf/msoi002j
footprint TI-D8_N (SOIC, 8-Leads, Body 4.9x3.9mm, Pitch 1.27mm, IPC Medium Density)
footprint TI-D8_L (SOIC, 8-Leads, Body 4.9x3.9mm, Pitch 1.27mm, IPC High Density)
footprint TI-D8_M (SOIC, 8-Leads, Body 4.9x3.9mm, Pitch 1.27mm, IPC Low Density)
pins on every part: 4 GND (power), 8 VDD (power)
part A pins: 1 OUT1 (out), 2 IN1- (in), 3 IN1+ (in)
part B pins: 5 IN2+ (in), 6 IN2- (in), 7 OUT2 (out)

## TLV2772AQPWRG4Q1
designator U?
Automotive Catalog High-Slew-Rate Rail-to-Rail Output Operational Amplifier with Shutdown, 2.5 to 6 V, -40 to 125 degC, 8-pin SOP (PW8), Green (RoHS & no Sb/Br); Manufacturer: Texas Instruments; PartNumber: TLV2772AQPWRG4Q1; CMRR(Min)(dB): 60; Iq per channel(Max)(mA): 2; Slew Rate(Typ)(V/us): 9; Sub Family: Low Supply Voltage Amplifier (<=2.7V), Precision Amplifier; Total Supply Voltage(Max)(+5V is 5, +/-5V is 10): 6; Total Supply Voltage(Min)(+5V is 5, +/-5V is 10): 2.5; Vio (25C)(Max)(mV): 1.6; Vn at 1kHz(Typ)(nV/rtHz): 21; DatasheetVersion: SGLS179D; PackageVersion: 4040064-2/G, 02/2011; PackageReference: PW8; PackageDescription: 8-Pin Plastic Small Outline, Body 4.4 x 3 mm, Pitch 0.65 mm; Supplier 1: Digi-Key; Supplier Part Number 1: TLV2772AQPWRG4Q1-ND; Supplier 2: Mouser; Supplier Part Number 2: 595-TLV2772AQPWRG4Q1; Eco-Plan: Green (RoHS & no Sb/Br); IIB(Max)(pA): 60; Number of Channels: 2; Offset Drift(Typ)(uV/C): 2; Mounting Technology: Surface Mount; Code_JEDEC: MO-153; ComponentLink1Description: Manufacturer URL; ComponentLink1URL: http://www.ti.com/; ComponentLink2Description: Datasheet; ComponentLink2URL: http://www.ti.com/general/docs/lit/getliterature.tsp?genericPartNumber=TLV2772A-Q1&fileType=pdf; ComponentLink3Description: Package Specification; ComponentLink3URL: http://www.ti.com/litv/pdf/mtss001d
footprint TI-PW8_N (SOP, 8-Leads, Body 4.4x3mm, Pitch 0.65mm, IPC Medium Density)
footprint TI-PW8_L (SOP, 8-Leads, Body 4.4x3mm, Pitch 0.65mm, IPC High Density)
footprint TI-PW8_M (SOP, 8-Leads, Body 4.4x3mm, Pitch 0.65mm, IPC Low Density)
pins on every part: 4 GND (power), 8 VDD (power)
part A pins: 1 OUT1 (out), 2 IN1- (in), 3 IN1+ (in)
part B pins: 5 IN2+ (in), 6 IN2- (in), 7 OUT2 (out)

## TLV4110ID
designator U?
High Output Drive, Low Voltage, Single Operational Amplifier with Shutdown, 2.5 to 6 V, -40 to 125 degC, 8-pin SOIC (D8), Green (RoHS & no Sb/Br); Manufacturer: Texas Instruments; PartNumber: TLV4110ID; CMRR(Min)(dB): 63; IIB(Max)(pA): 500; Iq per channel(Max)(mA): 5.5; Number of Channels: 1; Offset Drift(Typ)(uV/C): 3; Slew Rate(Typ)(V/us): 1.57; Sub Family: Low Supply Voltage Amplifier (<=2.7V), Precision Amplifier; Total Supply Voltage(Max)(+5V is 5, +/-5V is 10): 6; Total Supply Voltage(Min)(+5V is 5, +/-5V is 10): 2.5; Vio (25C)(Max)(mV): 3.5; DatasheetVersion: SLOS289E; PackageVersion: 4040047-3/M, 06/2011; PackageReference: D8; PackageDescription: 8-Pin Plastic Small Outline, Body 4.9 x 3.9 mm, Pitch 1.27 mm; Supplier 1: Digi-Key; Supplier Part Number 1: 296-10712-5-ND; Supplier 2: Newark; Supplier Part Number 2: 76C8820; Supplier 3: Mouser; Supplier Part Number 3: 595-TLV4110ID; Eco-Plan: Green (RoHS & no Sb/Br); Mounting Technology: Surface Mount; Code_JEDEC: MS-012; ComponentLink1Description: Manufacturer URL; ComponentLink1URL: http://www.ti.com/; ComponentLink2Description: Datasheet; ComponentLink2URL: http://www.ti.com/general/docs/lit/getliterature.tsp?genericPartNumber=TLV4110&fileType=pdf; ComponentLink3Description: Package Specification; ComponentLink3URL: http://www.ti.com/litv/pdf/msoi002j
footprint TI-D8_N (SOIC, 8-Leads, Body 4.9x3.9mm, Pitch 1.27mm, IPC Medium Density)
footprint TI-D8_L (SOIC, 8-Leads, Body 4.9x3.9mm, Pitch 1.27mm, IPC High Density)
footprint TI-D8_M (SOIC, 8-Leads, Body 4.9x3.9mm, Pitch 1.27mm, IPC Low Density)
pins: 1 NC, 2 IN- (in), 3 IN+ (in), 4 GND (power), 5 NC, 6 OUT (hiz), 7 VDD (power), 8 ~{SHDN} (in)

## TLV4110IDG4
designator U?
High Output Drive, Low Voltage, Single Operational Amplifier with Shutdown, 2.5 to 6 V, -40 to 125 degC, 8-pin SOIC (D8), Green (RoHS & no Sb/Br); Manufacturer: Texas Instruments; PartNumber: TLV4110IDG4; CMRR(Min)(dB): 63; IIB(Max)(pA): 500; Iq per channel(Max)(mA): 5.5; Number of Channels: 1; Offset Drift(Typ)(uV/C): 3; Slew Rate(Typ)(V/us): 1.57; Sub Family: Low Supply Voltage Amplifier (<=2.7V), Precision Amplifier; Total Supply Voltage(Max)(+5V is 5, +/-5V is 10): 6; Total Supply Voltage(Min)(+5V is 5, +/-5V is 10): 2.5; Vio (25C)(Max)(mV): 3.5; DatasheetVersion: SLOS289E; PackageVersion: 4040047-3/M, 06/2011; PackageReference: D8; PackageDescription: 8-Pin Plastic Small Outline, Body 4.9 x 3.9 mm, Pitch 1.27 mm; Supplier 1: Digi-Key; Supplier Part Number 1: TLV4110IDG4-ND; Supplier 2: Newark; Supplier Part Number 2: 28M7782; Supplier 3: Mouser; Supplier Part Number 3: 595-TLV4110IDG4; Eco-Plan: Green (RoHS & no Sb/Br); Mounting Technology: Surface Mount; Code_JEDEC: MS-012; ComponentLink1Description: Manufacturer URL; ComponentLink1URL: http://www.ti.com/; ComponentLink2Description: Datasheet; ComponentLink2URL: http://www.ti.com/general/docs/lit/getliterature.tsp?genericPartNumber=TLV4110&fileType=pdf; ComponentLink3Description: Package Specification; ComponentLink3URL: http://www.ti.com/litv/pdf/msoi002j
footprint TI-D8_N (SOIC, 8-Leads, Body 4.9x3.9mm, Pitch 1.27mm, IPC Medium Density)
footprint TI-D8_L (SOIC, 8-Leads, Body 4.9x3.9mm, Pitch 1.27mm, IPC High Density)
footprint TI-D8_M (SOIC, 8-Leads, Body 4.9x3.9mm, Pitch 1.27mm, IPC Low Density)
pins: 1 NC, 2 IN- (in), 3 IN+ (in), 4 GND (power), 5 NC, 6 OUT (hiz), 7 VDD (power), 8 ~{SHDN} (in)

## TLV4110IDGNR
designator U?
High Output Drive, Low Voltage, Single Operational Amplifier with Shutdown, 2.5 to 6 V, -40 to 125 degC, 8-pin SOP (DGN8), Green (RoHS & no Sb/Br); Manufacturer: Texas Instruments; PartNumber: TLV4110IDGNR; CMRR(Min)(dB): 63; IIB(Max)(pA): 500; Iq per channel(Max)(mA): 5.5; Number of Channels: 1; Offset Drift(Typ)(uV/C): 3; Slew Rate(Typ)(V/us): 1.57; Sub Family: Low Supply Voltage Amplifier (<=2.7V), Precision Amplifier; Total Supply Voltage(Max)(+5V is 5, +/-5V is 10): 6; Total Supply Voltage(Min)(+5V is 5, +/-5V is 10): 2.5; Vio (25C)(Max)(mV): 3.5; DatasheetVersion: SLOS289E; PackageVersion: 4073271/F, 05/2011; PackageReference: DGN8-1760X1425TP; PackageDescription: 8-Pin Plastic Small Outline, Body 3 x 3 mm, Pitch 0.65 mm; Supplier 1: Digi-Key; Supplier Part Number 1: 296-10713-2-ND; Supplier 2: Digi-Key; Supplier Part Number 2: 296-10713-1-ND; Supplier 3: Farnell; Supplier Part Number 3: 1575662; Supplier 4: Newark; Supplier Part Number 4: 76C8822; Supplier 5: Mouser; Supplier Part Number 5: 595-TLV4110IDGNR; Eco-Plan: Green (RoHS & no Sb/Br); Mounting Technology: Surface Mount; Code_JEDEC: MO-187; ComponentLink1Description: Manufacturer URL; ComponentLink1URL: http://www.ti.com/; ComponentLink2Description: Datasheet; ComponentLink2URL: http://www.ti.com/general/docs/lit/getliterature.tsp?genericPartNumber=TLV4110&fileType=pdf; ComponentLink3Description: Package Specification; ComponentLink3URL: http://www.ti.com/litv/pdf/mpds046e
footprint TI-DGN8-1760X1425TP_N (SOP, 8-Leads, Body 3x3mm, Pitch 0.65mm, Thermal Pad 1.89x1.57mm, IPC Medium Density)
footprint TI-DGN8-1760X1425TP_L (SOP, 8-Leads, Body 3x3mm, Pitch 0.65mm, Thermal Pad 1.89x1.57mm, IPC High Density)
footprint TI-DGN8-1760X1425TP_M (SOP, 8-Leads, Body 3x3mm, Pitch 0.65mm, Thermal Pad 1.89x1.57mm, IPC Low Density)
pins: 1 NC, 2 IN- (in), 3 IN+ (in), 4 GND (power), 5 NC, 6 OUT (hiz), 7 VDD (power), 8 ~{SHDN} (in), 9 EP

## TLV4110IDGNRG4
designator U?
High Output Drive, Low Voltage, Single Operational Amplifier with Shutdown, 2.5 to 6 V, -40 to 125 degC, 8-pin SOP (DGN8), Green (RoHS & no Sb/Br); Manufacturer: Texas Instruments; PartNumber: TLV4110IDGNRG4; CMRR(Min)(dB): 63; IIB(Max)(pA): 500; Iq per channel(Max)(mA): 5.5; Number of Channels: 1; Offset Drift(Typ)(uV/C): 3; Slew Rate(Typ)(V/us): 1.57; Sub Family: Low Supply Voltage Amplifier (<=2.7V), Precision Amplifier; Total Supply Voltage(Max)(+5V is 5, +/-5V is 10): 6; Total Supply Voltage(Min)(+5V is 5, +/-5V is 10): 2.5; Vio (25C)(Max)(mV): 3.5; DatasheetVersion: SLOS289E; PackageVersion: 4073271/F, 05/2011; PackageReference: DGN8-1760X1425TP; PackageDescription: 8-Pin Plastic Small Outline, Body 3 x 3 mm, Pitch 0.65 mm; Supplier 1: Digi-Key; Supplier Part Number 1: TLV4110IDGNRG4-ND; Supplier 2: Mouser; Supplier Part Number 2: 595-TLV4110IDGNRG4; Eco-Plan: Green (RoHS & no Sb/Br); Mounting Technology: Surface Mount; Code_JEDEC: MO-187; ComponentLink1Description: Manufacturer URL; ComponentLink1URL: http://www.ti.com/; ComponentLink2Description: Datasheet; ComponentLink2URL: http://www.ti.com/general/docs/lit/getliterature.tsp?genericPartNumber=TLV4110&fileType=pdf; ComponentLink3Description: Package Specification; ComponentLink3URL: http://www.ti.com/litv/pdf/mpds046e
footprint TI-DGN8-1760X1425TP_N (SOP, 8-Leads, Body 3x3mm, Pitch 0.65mm, Thermal Pad 1.89x1.57mm, IPC Medium Density)
footprint TI-DGN8-1760X1425TP_L (SOP, 8-Leads, Body 3x3mm, Pitch 0.65mm, Thermal Pad 1.89x1.57mm, IPC High Density)
footprint TI-DGN8-1760X1425TP_M (SOP, 8-Leads, Body 3x3mm, Pitch 0.65mm, Thermal Pad 1.89x1.57mm, IPC Low Density)
pins: 1 NC, 2 IN- (in), 3 IN+ (in), 4 GND (power), 5 NC, 6 OUT (hiz), 7 VDD (power), 8 ~{SHDN} (in), 9 EP

## TLV4110IDR
designator U?
High Output Drive, Low Voltage, Single Operational Amplifier with Shutdown, 2.5 to 6 V, -40 to 125 degC, 8-pin SOIC (D8), Green (RoHS & no Sb/Br); Manufacturer: Texas Instruments; PartNumber: TLV4110IDR; CMRR(Min)(dB): 63; IIB(Max)(pA): 500; Iq per channel(Max)(mA): 5.5; Number of Channels: 1; Offset Drift(Typ)(uV/C): 3; Slew Rate(Typ)(V/us): 1.57; Sub Family: Low Supply Voltage Amplifier (<=2.7V), Precision Amplifier; Total Supply Voltage(Max)(+5V is 5, +/-5V is 10): 6; Total Supply Voltage(Min)(+5V is 5, +/-5V is 10): 2.5; Vio (25C)(Max)(mV): 3.5; DatasheetVersion: SLOS289E; PackageVersion: 4040047-3/M, 06/2011; PackageReference: D8; PackageDescription: 8-Pin Plastic Small Outline, Body 4.9 x 3.9 mm, Pitch 1.27 mm; Supplier 1: Digi-Key; Supplier Part Number 1: 296-12301-2-ND; Supplier 2: Digi-Key; Supplier Part Number 2: 296-12301-1-ND; Supplier 3: Digi-Key; Supplier Part Number 3: 296-12301-6-ND; Supplier 4: Mouser; Supplier Part Number 4: 595-TLV4110IDR; Eco-Plan: Green (RoHS & no Sb/Br); Mounting Technology: Surface Mount; Code_JEDEC: MS-012; ComponentLink1Description: Manufacturer URL; ComponentLink1URL: http://www.ti.com/; ComponentLink2Description: Datasheet; ComponentLink2URL: http://www.ti.com/general/docs/lit/getliterature.tsp?genericPartNumber=TLV4110&fileType=pdf; ComponentLink3Description: Package Specification; ComponentLink3URL: http://www.ti.com/litv/pdf/msoi002j
footprint TI-D8_N (SOIC, 8-Leads, Body 4.9x3.9mm, Pitch 1.27mm, IPC Medium Density)
footprint TI-D8_L (SOIC, 8-Leads, Body 4.9x3.9mm, Pitch 1.27mm, IPC High Density)
footprint TI-D8_M (SOIC, 8-Leads, Body 4.9x3.9mm, Pitch 1.27mm, IPC Low Density)
pins: 1 NC, 2 IN- (in), 3 IN+ (in), 4 GND (power), 5 NC, 6 OUT (hiz), 7 VDD (power), 8 ~{SHDN} (in)

## TLV4110IDRG4
designator U?
High Output Drive, Low Voltage, Single Operational Amplifier with Shutdown, 2.5 to 6 V, -40 to 125 degC, 8-pin SOIC (D8), Green (RoHS & no Sb/Br); Manufacturer: Texas Instruments; PartNumber: TLV4110IDRG4; CMRR(Min)(dB): 63; IIB(Max)(pA): 500; Iq per channel(Max)(mA): 5.5; Number of Channels: 1; Offset Drift(Typ)(uV/C): 3; Slew Rate(Typ)(V/us): 1.57; Sub Family: Low Supply Voltage Amplifier (<=2.7V), Precision Amplifier; Total Supply Voltage(Max)(+5V is 5, +/-5V is 10): 6; Total Supply Voltage(Min)(+5V is 5, +/-5V is 10): 2.5; Vio (25C)(Max)(mV): 3.5; DatasheetVersion: SLOS289E; PackageVersion: 4040047-3/M, 06/2011; PackageReference: D8; PackageDescription: 8-Pin Plastic Small Outline, Body 4.9 x 3.9 mm, Pitch 1.27 mm; Supplier 1: Digi-Key; Supplier Part Number 1: TLV4110IDRG4-ND; Supplier 2: Newark; Supplier Part Number 2: 41M5517; Supplier 3: Mouser; Supplier Part Number 3: 595-TLV4110IDRG4; Eco-Plan: Green (RoHS & no Sb/Br); Mounting Technology: Surface Mount; Code_JEDEC: MS-012; ComponentLink1Description: Manufacturer URL; ComponentLink1URL: http://www.ti.com/; ComponentLink2Description: Datasheet; ComponentLink2URL: http://www.ti.com/general/docs/lit/getliterature.tsp?genericPartNumber=TLV4110&fileType=pdf; ComponentLink3Description: Package Specification; ComponentLink3URL: http://www.ti.com/litv/pdf/msoi002j
footprint TI-D8_N (SOIC, 8-Leads, Body 4.9x3.9mm, Pitch 1.27mm, IPC Medium Density)
footprint TI-D8_L (SOIC, 8-Leads, Body 4.9x3.9mm, Pitch 1.27mm, IPC High Density)
footprint TI-D8_M (SOIC, 8-Leads, Body 4.9x3.9mm, Pitch 1.27mm, IPC Low Density)
pins: 1 NC, 2 IN- (in), 3 IN+ (in), 4 GND (power), 5 NC, 6 OUT (hiz), 7 VDD (power), 8 ~{SHDN} (in)

## TLV4110IP
designator U?
High Output Drive, Low Voltage, Single Operational Amplifier with Shutdown, 2.5 to 6 V, -40 to 125 degC, 8-pin DIP (P8), Pb-Free (RoHS); Manufacturer: Texas Instruments; PartNumber: TLV4110IP; CMRR(Min)(dB): 63; IIB(Max)(pA): 500; Iq per channel(Max)(mA): 5.5; Number of Channels: 1; Offset Drift(Typ)(uV/C): 3; Slew Rate(Typ)(V/us): 1.57; Sub Family: Low Supply Voltage Amplifier (<=2.7V), Precision Amplifier; Total Supply Voltage(Max)(+5V is 5, +/-5V is 10): 6; Total Supply Voltage(Min)(+5V is 5, +/-5V is 10): 2.5; Vio (25C)(Max)(mV): 3.5; DatasheetVersion: SLOS289E; PackageVersion: 4040082/E, 04/2010; PackageReference: P8; PackageDescription: 8-Pin Plastic In-Line, Body 9.59 x 6.35 mm, Pitch 2.54 mm; Supplier 1: Digi-Key; Supplier Part Number 1: 296-15719-5-ND; Supplier 2: Newark; Supplier Part Number 2: 76C8824; Supplier 3: Mouser; Supplier Part Number 3: 595-TLV4110IP; Eco-Plan: Pb-Free (RoHS); Mounting Technology: Through Hole; Code_JEDEC: MS-001; ComponentLink1Description: Manufacturer URL; ComponentLink1URL: http://www.ti.com/; ComponentLink2Description: Datasheet; ComponentLink2URL: http://www.ti.com/general/docs/lit/getliterature.tsp?genericPartNumber=TLV4110&fileType=pdf; ComponentLink3Description: Package Specification; ComponentLink3URL: http://www.ti.com/litv/pdf/mpdi001b
footprint TI-P8 (DIP, 8-Leads, Body 9.59x6.35mm, Pitch 2.54mm)
pins: 1 NC, 2 IN- (in), 3 IN+ (in), 4 GND (power), 5 NC, 6 OUT (hiz), 7 VDD (power), 8 ~{SHDN} (in)

## TLV4110IPE4
designator U?
High Output Drive, Low Voltage, Single Operational Amplifier with Shutdown, 2.5 to 6 V, -40 to 125 degC, 8-pin DIP (P8), Pb-Free (RoHS); Manufacturer: Texas Instruments; PartNumber: TLV4110IPE4; CMRR(Min)(dB): 63; IIB(Max)(pA): 500; Iq per channel(Max)(mA): 5.5; Number of Channels: 1; Offset Drift(Typ)(uV/C): 3; Slew Rate(Typ)(V/us): 1.57; Sub Family: Low Supply Voltage Amplifier (<=2.7V), Precision Amplifier; Total Supply Voltage(Max)(+5V is 5, +/-5V is 10): 6; Total Supply Voltage(Min)(+5V is 5, +/-5V is 10): 2.5; Vio (25C)(Max)(mV): 3.5; DatasheetVersion: SLOS289E; PackageVersion: 4040082/E, 04/2010; PackageReference: P8; PackageDescription: 8-Pin Plastic In-Line, Body 9.59 x 6.35 mm, Pitch 2.54 mm; Supplier 1: Digi-Key; Supplier Part Number 1: TLV4110IPE4-ND; Supplier 2: Mouser; Supplier Part Number 2: 595-TLV4110IPE4; Eco-Plan: Pb-Free (RoHS); Mounting Technology: Through Hole; Code_JEDEC: MS-001; ComponentLink1Description: Manufacturer URL; ComponentLink1URL: http://www.ti.com/; ComponentLink2Description: Datasheet; ComponentLink2URL: http://www.ti.com/general/docs/lit/getliterature.tsp?genericPartNumber=TLV4110&fileType=pdf; ComponentLink3Description: Package Specification; ComponentLink3URL: http://www.ti.com/litv/pdf/mpdi001b
footprint TI-P8 (DIP, 8-Leads, Body 9.59x6.35mm, Pitch 2.54mm)
pins: 1 NC, 2 IN- (in), 3 IN+ (in), 4 GND (power), 5 NC, 6 OUT (hiz), 7 VDD (power), 8 ~{SHDN} (in)